# Altium schematic symbol library LTC1427CS8-50#PBF.SchLib: 1 symbol
Pins are listed as number, name and electrical type; pins without a type are passive.

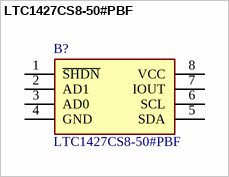
[diagram p0: symbol LTC1427CS8-50#PBF]

## LTC1427CS8-50#PBF
designator B?
LINEAR TECHNOLOGY - LTC1427CS8-50#PBF - DAC, CURRENT OUTPUT, 10BIT, NSOIC-10; Manufacturer_Name: Analog Devices; Geometry.Height: 1.752mm; Mouser Part Number: 584-LTC1427CS8-50PBF; Mouser Price/Stock: https://www.mouser.co.uk/ProductDetail/Analog-Devices/LTC1427CS8-50PBF?qs=hVkxg5c3xu82jOB7HsPGTw%3D%3D; Manufacturer_Part_Number: LTC1427CS8-50#PBF; Datasheet Link: https://datasheet.datasheetarchive.com/originals/distributors/Datasheets-17/DSA-322129.pdf
footprint SOIC127P599X175-8N
pins: 1 ~{SHDN}, 2 AD1, 3 AD0, 4 GND, 5 SDA, 6 SCL, 7 IOUT, 8 VCC